# Altium footprint library E-LINE.PcbLib: 1 footprints
Each footprint in its own frame and in the unit in brackets; x right, y up, seen from the top. Pads: shape width x height; smd on the part's side, far side on the other; paste and mask are expansions set on the pad; w line width, h text height; cw(c..) or ccw(c..) is an arc to the next point about the centre after c.
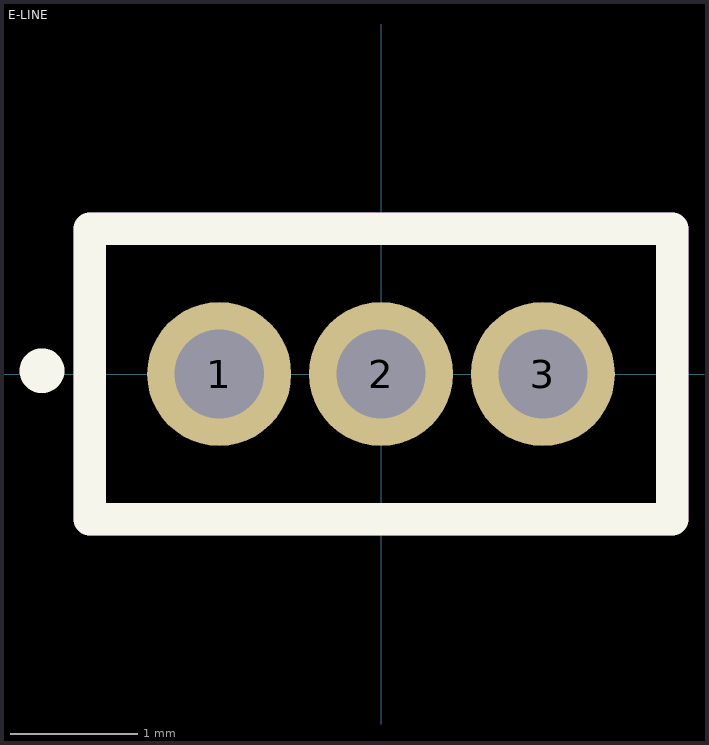
[diagram p0: the footprint, top view; thin cyan lines are the x and y axes]

## E-LINE [mm]
pads (3):
  round 1.13 hole 0.7: 1(-1.27,0) 2(0,0) 3(1.27,0)
Top Overlay:
  circle w0.254: c-2.661,0.026 r0.048
  lines w0.254: -2.285,-1.14 -2.285,1.14 2.285,1.14 2.285,-1.14 -2.285,-1.14
Mechanical 15:
  lines w0.254: -2.285,-1.14 2.285,-1.14 2.285,1.14 -2.285,1.14 -2.285,-1.14